# Altium integrated library SMD Trim Res Lib.IntLib: 1 symbol
Pins are listed as number, name and electrical type; pins without a type are passive.

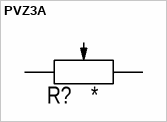
[diagram p0: symbol PVZ3A]

## PVZ3A
designator R?
SMD Trimmer Resistor; Manufacture: Murata; Model: PVZ3A; Value: *
footprint PVZ3A (Trimer Resistor PVZ3A 3.1X3.6mm)
pins: 1 "ResPin", 2 "ResPin", 3 "ResPin"